# Altium footprint library Optoisolator-SOIC254P1016X400-6N.PcbLib: 1 footprints
Each footprint in its own frame and in the unit in brackets; x right, y up, seen from the top. Pads: shape width x height; smd on the part's side, far side on the other; paste and mask are expansions set on the pad; w line width, h text height; cw(c..) or ccw(c..) is an arc to the next point about the centre after c.
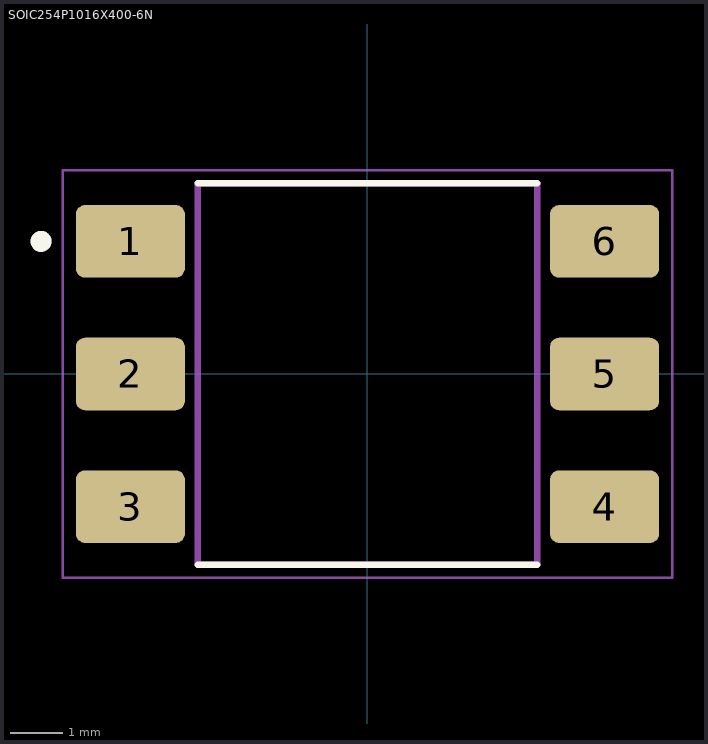
[diagram p0: the footprint, top view; thin cyan lines are the x and y axes]

## SOIC254P1016X400-6N [mm]
height 4
pads (6):
  rrect25% 2.09x1.39 smd paste+0 mask+0.102: 1(-4.54,2.54) 2(-4.54,0) 3(-4.54,-2.54) 4(4.54,-2.54) 5(4.54,0) 6(4.54,2.54)
Top Overlay:
  circle w0.2: c-6.25,2.54 r0.1
  lines w0.127: -3.25,-3.65 3.25,-3.65 ; -3.25,3.65 3.25,3.65
Assembly Top:
  circle w0.2: c-6.25,2.54 r0.1
  lines w0.127: -3.25,-3.65 3.25,-3.65 3.25,3.65 -3.25,3.65 -3.25,-3.65
Courtyard Top:
  lines w0.05: -5.835,-3.9 5.835,-3.9 5.835,3.9 -5.835,3.9 -5.835,-3.9
3D body "step_temp.STEP": height 4.6, standoff 0, extent -5.08,-3.65 5.08,3.65